# Altium footprint library IFBpcblib_offline.PcbLib: 137 footprints (part 1 of 9)
Each footprint in its own frame and in the unit in brackets; x right, y up, seen from the top. Pads: shape width x height; smd on the part's side, far side on the other; paste and mask are expansions set on the pad; w line width, h text height; cw(c..) or ccw(c..) is an arc to the next point about the centre after c.
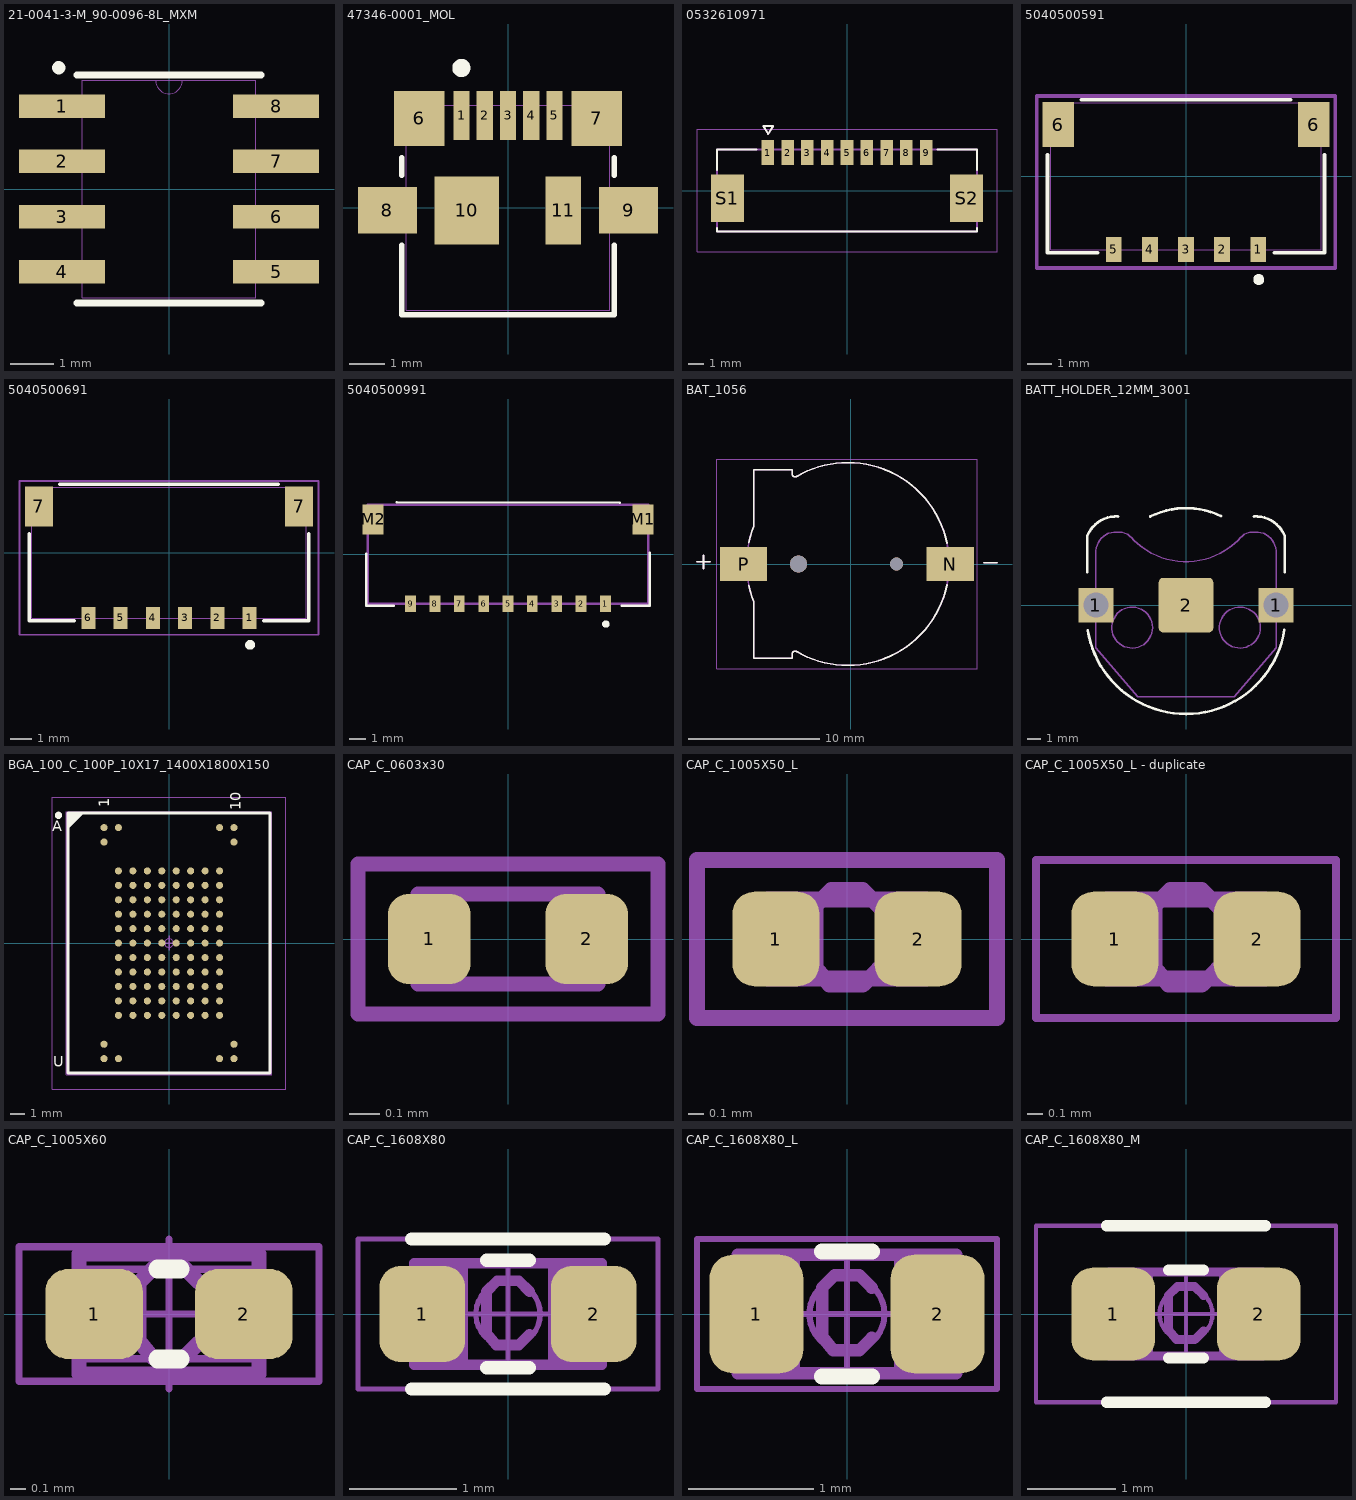
[diagram p0: the footprints below, top view; thin cyan lines are the x and y axes]

## 21-0041-3-M_90-0096-8L_MXM [mm]
pads (8):
  rect 1.981x0.541 smd paste+0 mask+0: 1(-2.465,1.905) 2(-2.465,0.635) 3(-2.465,-0.635) 4(-2.465,-1.905) 5(2.465,-1.905) 6(2.465,-0.635) 7(2.465,0.635) 8(2.465,1.905)
Top Overlay:
  circle w0.203: c-2.54,2.794 r0.051
  lines w0.152: -2.127,-2.627 2.127,-2.627 ; -2.127,2.627 2.127,2.627
Mechanical 13:
  lines w0: -0.305,2.5 ccw(c0,2.5) 0.305,2.5
  lines w0.025: -3.1,-2.15 -3.1,-1.66 -2,-1.66 -2,-2.15 -3.1,-2.15 ; -3.1,-0.88 -3.1,-0.39 -2,-0.39 -2,-0.88 -3.1,-0.88 ; -3.1,0.39 -3.1,0.88 -2,0.88 -2,0.39 -3.1,0.39 ; -3.1,1.66 -3.1,2.15 -2,2.15 -2,1.66 -3.1,1.66 ; -2,-2.5 2,-2.5 2,2.5 -2,2.5 -2,-2.5 ; 2,-2.15 2,-1.66 3.1,-1.66 3.1,-2.15 2,-2.15 ; 2,-0.88 2,-0.39 3.1,-0.39 3.1,-0.88 2,-0.88 ; 2,0.39 2,0.88 3.1,0.88 3.1,0.39 2,0.39 ; 2,1.66 2,2.15 3.1,2.15 3.1,1.66 2,1.66
3D body "21-0041-3-M_90-0096-8L_MXM.step": height 1.75, standoff 0, extent -3.1,-2.5 3.1,2.5

## 47346-0001_MOL [mil]
pads (11):
  rect 18x54 smd paste+0 mask+1.97: 1(-51.18,101.58) 2(-25.59,101.58) 3(0,101.58) 4(25.59,101.58) 5(51.18,101.58)
  rect 56x61 smd paste+0 mask+1.97: 6(-97.93,98.24) 7(97.93,98.24)
  rect 65x51 smd paste+0 mask+1.97: 8(-132.87,-3.14) 9(132.87,-3.14)
  rect 71x75 smd paste+0 mask+1.97: 10(-45.28,-3.14)
  rect 39x75 smd paste+0 mask+1.97: 11(61,-3.14)
Top Overlay:
  circle w10: c-51.37,153.84 r5
  lines w6: -117,-41.74 -117,-118 117,-118 117,-41.74 ; -117,35.46 -117,54.64 ; 117,35.46 117,54.64
Mechanical 13:
  lines w1: -112,-113 112,-113 112,113 -112,113 -112,-113
3D body "473460001.stp": height 105.87, standoff -9.87, extent -157.09,-109.45 157.09,104.33

## 0532610971 [mm] "CONN HEADER SMD R/A 9POS 1.25MM"
pads (11):
  rect 0.8x1.6 smd mask+0.076: 1(-5,2.4) 2(-3.75,2.4) 3(-2.5,2.4) 4(-1.25,2.4) 5(0,2.4) 6(1.25,2.4) 7(2.5,2.4) 8(3.75,2.4) 9(5,2.4)
  rect 2.1x3 smd mask+0.076: S1(-7.55,-0.5) S2(7.55,-0.5)
Top Overlay:
  lines w0.127: -8.2,-2.35 -8.2,-2.6 8.2,-2.6 8.2,-2.35 ; -8.2,1.3 -8.2,2.6 -5.72,2.6 ; 5.72,2.6 8.2,2.6 8.2,1.3 ; -5.278,4.067 -4.678,4.067 -4.978,3.567 -5.278,4.067
Top Assembly:
  text "'.Designator'" at -11.717,-2.718 h1.9
Mechanical 13:
  lines w0.127: -8.2,-2.6 8.2,-2.6 8.2,2.6 -8.2,2.6 -8.2,-2.6 ; -5.278,4.067 -4.678,4.067 -4.978,3.567 -5.278,4.067
Mechanical 15:
  lines w0.05: -9.47,-3.87 9.47,-3.87 9.47,3.87 -9.47,3.87 -9.47,-3.87
3D body "0532610971.stp": height 3.2, standoff -0.2, extent -8.2,-2.667 8.2,2.533

## 5040500591 [mil]
pads (7):
  rect 26x41 smd: 1(118.11,-119.76) 2(59.06,-119.76) 3(0,-119.76) 4(-59.06,-119.76) 5(-118.11,-119.76)
  rect 51x73 smd: 6(-208.86,84.57) 6(208.86,84.57)
Top Overlay:
  circle w10: c119,-169 r3.94
  lines w6: -226.5,34.97 -226.5,-125 -144.21,-125 ; -170.86,125 170.86,125 ; 144.21,-125 226.5,-125 226.5,34.97
Mechanical 13:
  lines w1: -221.5,-120 221.5,-120 221.5,120 -221.5,120 -221.5,-120
Mechanical 15:
  lines w6: -244.36,-150.26 -244.36,131.07 244.36,131.07 244.36,-150.26 -244.36,-150.26
3D body "5040500591.stp": height 78.74, standoff 0, extent -237.2,-133.54 237.2,120

## 5040500691 [mil]
pads (8):
  rect 26x41 smd paste+0: 1(147.64,-119.76) 2(88.58,-119.76) 3(29.53,-119.76) 4(-29.53,-119.76) 5(-88.58,-119.76) 6(-147.64,-119.76)
  rect 51x73 smd: 7(-238.19,84.57) 7(238.19,84.57)
Top Overlay:
  circle w10: c148.53,-169 r3.94
  lines w6: -256,34.97 -256,-125 -173.74,-125 ; -200.19,125 200.19,125 ; 173.74,-125 256,-125 256,34.97
Mechanical 13:
  lines w1: -251,-120 -251,120 251,120 251,-120 -251,-120
Mechanical 15:
  lines w3: -273.69,-150.26 273.69,-150.26 273.69,131.07 -273.69,131.07 -273.69,-150.26
3D body "5040500691.stp": height 78.74, standoff 0, extent -266.73,-127.54 266.73,126

## 5040500991 [mil]
pads (11):
  rect 26x41 smd: 1(236.22,-119.76) 2(177.17,-119.76) 3(118.11,-119.76) 4(59.06,-119.76) 5(0,-119.76) 6(-59.06,-119.76) 7(-118.11,-119.76) 8(-177.17,-119.76) 9(-236.22,-119.76)
  rect 51x73 smd: M1(326.97,84.57) M2(-326.97,84.57)
Top Overlay:
  circle w10: c237.11,-169 r3.94
  lines w6: -344,2 -344,-125 -277,-125 ; -270,126 271,125 ; 276,-125 344,-125 344,4
Mechanical 13:
  lines w6: -340,-120 -340,120 340,120 340,-120 -340,-120
3D body "5040500991.stp": height 78.74, standoff 0, extent -354.09,-129.25 356.54,124.29

## BAT_1056 [mm]
height 3.99
pads (4):
  rect 3.6x2.6 smd: N(7.61,0) P(-8.18,0)
  round 1.3 hole 1.3 unplated: ""(-3.98,0)
  round 1 hole 1 unplated: ""(3.51,0)
Top Overlay:
  lines w0.127: -11.735,0.16 -10.735,0.16 ; -11.235,-0.34 -11.235,0.66 ; -7.78,-1.632 ccw(c-0.484,-0.082) -7.4,-2.876 ; -7.78,1.632 cw(c-0.484,0.082) -7.4,2.876 ; -7.41,-2.85 -7.41,-7.2 -4.46,-7.2 -4.46,-6.88 ; -7.41,2.85 -7.41,7.2 -4.46,7.2 -4.46,6.88 ; -4.46,-6.881 cw(c-4.255,-6.87) -4.266,-6.665 cw(c-4.248,-7.014) -4.084,-6.705 ; -4.46,6.881 ccw(c-4.255,6.87) -4.266,6.665 ccw(c-4.248,7.014) -4.084,6.705 ; -4.078,-6.709 ccw(c-0.212,-0.013) -0.212,-7.745 ; -4.078,6.709 cw(c-0.212,0.013) -0.212,7.745 ; -0.21,-7.745 ccw(c-0.21,0) 7.366,-1.61 ; -0.21,7.745 cw(c-0.21,0) 7.366,1.61 ; 10.185,0.09 11.185,0.09
Mechanical 13:
  lines w0.127: -11.735,0.16 -10.735,0.16 ; -11.235,-0.34 -11.235,0.66 ; -7.41,-2.85 -7.41,-7.2 -4.46,-7.2 -4.46,-6.88 ; -7.41,2.85 -7.41,7.2 -4.46,7.2 -4.46,6.88 ; -7.393,-2.893 cw(c-0.231,0) -7.393,2.893 ; -4.46,-6.881 cw(c-4.255,-6.87) -4.266,-6.665 cw(c-4.248,-7.014) -4.084,-6.705 ; -4.46,6.881 ccw(c-4.255,6.87) -4.266,6.665 ccw(c-4.248,7.014) -4.084,6.705 ; -4.078,-6.709 ccw(c-0.212,-0.013) -0.212,-7.745 ; -4.078,6.709 cw(c-0.212,0.013) -0.212,7.745 ; -0.21,-7.745 ccw(c-0.21,0) -0.21,7.745 ; 10.185,0.09 11.185,0.09
Mechanical 15:
  lines w0.05: -10.23,-8 -10.23,8 9.66,8 9.66,-8 -10.23,-8
3D body "step_temp.STEP": height 1.83, standoff -3.33, extent -6.361,-9.342 8.777,9.458

## BATT_HOLDER_12MM_3001 [mil] "BATTERY HOLDER 12MM COIN TH"
height 118.11
pads (3):
  rect 100x100 hole 73: 1(-260,0) 1(260,0)
  rrect15% 157.48x157.48 smd: 2(0,0)
Top Overlay:
  lines w7.87: -285.04,94.49 -285.04,200 ; -285,200 cw(c-201.21,165.66) -196.53,256.09 ; -283.69,-73.03 ccw(c0,-27) 284.02,-70.98 ; -102.93,255.92 cw(c0,47.95) 100.92,256.9 ; 196.53,256.09 cw(c201.21,165.66) 285,200 ; 285.04,94.49 285.04,196.85
Top Assembly:
  circle w3.94: c-155.51,-65 r59.06
  circle w3.94: c155.51,-65 r59.06
  lines w3.94: -260,-31 -290,-31 -290,31 -260,31 ; 260,-31 290,-31 290,31 260,31 ; -260,-123 -260,157 cw(c-203,154) -200,211 cw(c-196.5,154.5) -150.74,187.82 ccw(c-0.03,338.53) 150.68,187.82 cw(c196.45,154.5) 199.95,211 cw(c203,154) 260,157 260,-123 140,-265 -140,-265 -260,-123
Top Courtyard:
  lines w3.94: -35,0 0,0 ; 0,-35 0,0 ; 0,35 0,0 ; 35,0 0,0
3D body "Keystone3001-1.STEP": height 127.95, standoff -76.77, extent -293.31,-259.91 293.31,240

## BGA_100_C_100P_10X17_1400X1800X150 [mm] "BGA, 100-Leads, Body 14.00x18.00mmx1.50mm, Pitch 1.00mm"
height 1.5
pads (200):
  round 0.49 smd: A1(-4.5,8) A2(-3.5,8) A9(3.5,8) A10(4.5,8) B1(-4.5,7) B10(4.5,7) D2(-3.5,5) D3(-2.5,5) D4(-1.5,5) D5(-0.5,5) D6(0.5,5) D7(1.5,5) D8(2.5,5) D9(3.5,5) E2(-3.5,4) E3(-2.5,4) E4(-1.5,4) E5(-0.5,4) E6(0.5,4) E7(1.5,4) E8(2.5,4) E9(3.5,4) F2(-3.5,3) F3(-2.5,3) F4(-1.5,3) F5(-0.5,3) F6(0.5,3) F7(1.5,3) F8(2.5,3) F9(3.5,3) G2(-3.5,2) G3(-2.5,2) G4(-1.5,2) G5(-0.5,2) G6(0.5,2) G7(1.5,2) G8(2.5,2) G9(3.5,2) H2(-3.5,1) H3(-2.5,1) H4(-1.5,1) H5(-0.5,1) H6(0.5,1) H7(1.5,1) H8(2.5,1) H9(3.5,1) J2(-3.5,0) J3(-2.5,0) J4(-1.5,0) J5(-0.5,0) J6(0.5,0) J7(1.5,0) J8(2.5,0) J9(3.5,0) K2(-3.5,-1) K3(-2.5,-1) K4(-1.5,-1) K5(-0.5,-1) K6(0.5,-1) K7(1.5,-1) K8(2.5,-1) K9(3.5,-1) L2(-3.5,-2) L3(-2.5,-2) L4(-1.5,-2) L5(-0.5,-2) L6(0.5,-2) L7(1.5,-2) L8(2.5,-2) L9(3.5,-2) M2(-3.5,-3) M3(-2.5,-3) M4(-1.5,-3) M5(-0.5,-3) M6(0.5,-3) M7(1.5,-3) M8(2.5,-3) M9(3.5,-3) N2(-3.5,-4) N3(-2.5,-4) N4(-1.5,-4) N5(-0.5,-4) N6(0.5,-4) N7(1.5,-4) N8(2.5,-4) N9(3.5,-4) P2(-3.5,-5) P3(-2.5,-5) P4(-1.5,-5) P5(-0.5,-5) P6(0.5,-5) P7(1.5,-5) P8(2.5,-5) P9(3.5,-5) T1(-4.5,-7) T10(4.5,-7) U1(-4.5,-8) U2(-3.5,-8) U9(3.5,-8) U10(4.5,-8)
  round 0.35 on Mech8 paste+0 mask+0: A1(-4.5,8) A2(-3.5,8) A9(3.5,8) A10(4.5,8) B1(-4.5,7) B10(4.5,7) D2(-3.5,5) D3(-2.5,5) D4(-1.5,5) D5(-0.5,5) D6(0.5,5) D7(1.5,5) D8(2.5,5) D9(3.5,5) E2(-3.5,4) E3(-2.5,4) E4(-1.5,4) E5(-0.5,4) E6(0.5,4) E7(1.5,4) E8(2.5,4) E9(3.5,4) F2(-3.5,3) F3(-2.5,3) F4(-1.5,3) F5(-0.5,3) F6(0.5,3) F7(1.5,3) F8(2.5,3) F9(3.5,3) G2(-3.5,2) G3(-2.5,2) G4(-1.5,2) G5(-0.5,2) G6(0.5,2) G7(1.5,2) G8(2.5,2) G9(3.5,2) H2(-3.5,1) H3(-2.5,1) H4(-1.5,1) H5(-0.5,1) H6(0.5,1) H7(1.5,1) H8(2.5,1) H9(3.5,1) J2(-3.5,0) J3(-2.5,0) J4(-1.5,0) J5(-0.5,0) J6(0.5,0) J7(1.5,0) J8(2.5,0) J9(3.5,0) K2(-3.5,-1) K3(-2.5,-1) K4(-1.5,-1) K5(-0.5,-1) K6(0.5,-1) K7(1.5,-1) K8(2.5,-1) K9(3.5,-1) L2(-3.5,-2) L3(-2.5,-2) L4(-1.5,-2) L5(-0.5,-2) L6(0.5,-2) L7(1.5,-2) L8(2.5,-2) L9(3.5,-2) M2(-3.5,-3) M3(-2.5,-3) M4(-1.5,-3) M5(-0.5,-3) M6(0.5,-3) M7(1.5,-3) M8(2.5,-3) M9(3.5,-3) N2(-3.5,-4) N3(-2.5,-4) N4(-1.5,-4) N5(-0.5,-4) N6(0.5,-4) N7(1.5,-4) N8(2.5,-4) N9(3.5,-4) P2(-3.5,-5) P3(-2.5,-5) P4(-1.5,-5) P5(-0.5,-5) P6(0.5,-5) P7(1.5,-5) P8(2.5,-5) P9(3.5,-5) T1(-4.5,-7) T10(4.5,-7) U1(-4.5,-8) U2(-3.5,-8) U9(3.5,-8) U10(4.5,-8)
Top Overlay:
  circle w0.25: c-7.65,8.85 r0.125
  region: -6,9 -7,8 -7,9
  lines w0.2: -7,8 -6,9 ; -7,-9 7,-9 7,9 -7,9 -7,-9
  text "A" at -8.1,7.5 h1.27
  text "U" at -8,-8.8 h1.27
  text "1" at -3.9,9.4 h1.27
  text "10" at 5.2,9.2 h1.27
Top Assembly:
  lines w0.025: -7.048,8.555 -6.549,9.055 ; -7.048,-9.055 7.048,-9.055 7.048,9.055 -7.048,9.055 -7.048,-9.055
  lines w0.1: -7,-9 7,-9 7,9 -7,9 -7,-9
  text "A" at -8.319,7.365 h1.27
  text "U" at -8.319,-8.635 h1.27
  text "1" at -3.865,9.69 h1.27
  text "10" at 5.135,9.69 h1.27
  text "'.Designator'" at -3.952,-0.622 h1.5
Top Courtyard:
  lines w0.05: -8.1,-10.1 8.1,-10.1 8.1,10.1 -8.1,10.1 -8.1,-10.1
  lines w0.1: -0.5,0 0.5,0 ; 0,-0.5 0,0.5
Top Component Outline:
  lines w0.05: -7.1,-9.1 7.1,-9.1 7.1,9.1 -7.1,9.1 -7.1,-9.1
Top Component Center:
  circle w0.05: c0,0 r0.3
  lines w0.05: -0.5,0 0.5,0 ; 0,-0.5 0,0.5
3D body "BGA100C100P10X17_1400X1800X150.step": height 1.5, standoff 0, extent -7,-9 7,9

## CAP_C_0603x30 [mm] "Chip Capacitor, 2-Leads, Body 0.6x0.3mm, IPC Medium Density"
height 0.3
pads (2):
  rrect50% 0.275x0.3 smd mask+0.064: 1(-0.262,0) 2(0.262,0)
Top Assembly:
  lines w0.05: -0.3,-0.15 -0.3,0.15 0.3,0.15 0.3,-0.15 -0.3,-0.15
  text ".Designator" at -0.5,0 h0.13
Top Courtyard:
  lines w0.05: -0.5,-0.25 0.5,-0.25 0.5,0.25 -0.5,0.25 -0.5,-0.25
  text "C" at -0.075,-0.1 h0.2
3D body "User Library-SMD CAPACITOR.STEP": height 0.28, standoff -0.02, extent -0.3,-0.15 0.3,0.15

## CAP_C_1005X50_L [mm] "Chip Capacitor, 2-Leads, Body 1.0x0.5mm, IPC High Density"
height 0.5
pads (2):
  rrect50% 0.55x0.6 smd: 1(-0.45,0) 2(0.45,0)
Top Assembly:
  lines w0.1: -0.5,-0.25 -0.5,0.25 0.5,0.25 0.5,-0.25 -0.5,-0.25
  text ".Designator" at -0.4,-0.15 h0.3
Top Courtyard:
  lines w0.1: 0.2,-0.19 0.1,-0.29 -0.11,-0.29 -0.2,-0.18 -0.2,0.21 -0.1,0.31 0.1,0.31 0.2,0.21 ; -0.95,-0.5 0.95,-0.5 0.95,0.5 -0.95,0.5 -0.95,-0.5
Top 3D Body:
  lines w0.1: -0.5,-0.25 0.5,-0.25 0.5,0.25 -0.5,0.25 -0.5,-0.25
3D body "CAP_C_0402.step": height 0.2, standoff 0, extent -0.5,-0.3 0.5,0.3

## CAP_C_1005X50_L - duplicate [mm] "Chip Capacitor, 2-Leads, Body 1.0x0.5mm, IPC High Density"
height 0.5
pads (2):
  rrect50% 0.55x0.6 smd: 1(-0.45,0) 2(0.45,0)
Top Assembly:
  lines w0.1: -0.5,-0.25 -0.5,0.25 0.5,0.25 0.5,-0.25 -0.5,-0.25
  text ".Designator" at -0.4,-0.15 h0.3
Top Courtyard:
  lines w0.05: -0.95,-0.5 0.95,-0.5 0.95,0.5 -0.95,0.5 -0.95,-0.5
  lines w0.1: 0.2,-0.19 0.1,-0.29 -0.11,-0.29 -0.2,-0.18 -0.2,0.21 -0.1,0.31 0.1,0.31 0.2,0.21
Top 3D Body:
  lines w0.1: -0.5,-0.25 0.5,-0.25 0.5,0.25 -0.5,0.25 -0.5,-0.25
3D body "CAP_C_0402.step": height 0.2, standoff 0, extent -0.5,-0.3 0.5,0.3

## CAP_C_1005X60 [mm]
pads (2):
  rrect50% 0.65x0.6 smd mask+0.05: 1(-0.5,0) 2(0.5,0)
Top Overlay:
  lines w0.125: -0.075,-0.3 0.075,-0.3 ; -0.075,0.3 0.075,0.3
Top Assembly:
  lines w0.1: -0.6,-0.4 0.6,-0.4 0.6,0.4 -0.6,0.4 -0.6,-0.4
  text "'.Designator'" at -4.433,-0.827 h1.6
Top Courtyard:
  lines w0.05: -1,-0.45 -1,0.45 1,0.45 1,-0.45 -0.575,-0.45 -1,-0.45
  lines w0.1: 0.2,-0.19 0.1,-0.29 -0.11,-0.29 -0.2,-0.18 -0.2,0.21 -0.1,0.31 0.1,0.31 0.2,0.21
Top Component Outline:
  rectangle: -0.55,-0.3 -0.25,0.3
  rectangle: 0.25,-0.3 0.55,0.3
  lines w0.05: -0.55,-0.3 0.55,-0.3 0.55,0.3 -0.55,0.3 -0.55,-0.3
Top Component Center:
  circle w0.05: c0,0 r0.3
  lines w0.05: -0.5,0 0.5,0 ; 0,-0.5 0,0.5
3D body "capacitor-0402C.step": height 0.35, standoff 0, extent -0.5,-0.265 0.5,0.265

## CAP_C_1608X80 [mm] "Chip Capacitor, 2-Leads, Body 1.60x0.80mm, IPC Medium Density"
height 0.85
pads (2):
  rrect50% 0.8x0.9 smd: 1(-0.8,0) 2(0.8,0)
Top Overlay:
  lines w0.125: -0.9,-0.7 0.9,-0.7 ; -0.9,0.7 0.9,0.7 ; -0.2,-0.5 0.2,-0.5 ; -0.2,0.5 0.2,0.5
Top Assembly:
  lines w0.1: -0.875,-0.475 -0.875,0.475 0.875,0.475 0.875,-0.475 -0.875,-0.475
  text "'.Designator'" at -4.217,-0.663 h1.6
Top Courtyard:
  lines w0.05: -1.4,-0.7 -1.4,0.7 1.4,0.7 1.4,-0.7 -1.4,-0.7
  lines w0.1: 0.2,-0.19 0.1,-0.29 -0.11,-0.29 -0.2,-0.18 -0.2,0.21 -0.1,0.31 0.1,0.31 0.2,0.21
Top Component Outline:
  rectangle: 0.375,-0.475 0.875,0.475
  rectangle: -0.875,-0.475 -0.375,0.475
  lines w0.05: -0.875,-0.475 0.875,-0.475 0.875,0.475 -0.875,0.475 -0.875,-0.475
Top Component Center:
  circle w0.05: c0,0 r0.3
  lines w0.05: -0.5,0 0.5,0 ; 0,-0.5 0,0.5
3D body "CAPC1608X80.step": height 0.85, standoff 0, extent -0.875,-0.475 0.875,0.475

## CAP_C_1608X80_L [mm] "Chip Capacitor, 2-Leads, Body 1.60x0.80mm, IPC High Density"
height 0.85
pads (2):
  rrect50% 0.75x0.95 smd: 1(-0.725,0) 2(0.725,0)
Top Overlay:
  lines w0.125: -0.2,-0.5 0.2,-0.5 ; -0.2,0.5 0.2,0.5
Top Assembly:
  lines w0.1: -0.875,-0.475 0.875,-0.475 0.875,0.475 -0.875,0.475 -0.875,-0.475
  text "'.Designator'" at -4.217,-0.663 h1.6
Top Courtyard:
  lines w0.05: -1.2,-0.6 -1.2,0.6 1.2,0.6 1.2,-0.6 -1.2,-0.6
  lines w0.1: 0.2,-0.19 0.1,-0.29 -0.11,-0.29 -0.2,-0.18 -0.2,0.21 -0.1,0.31 0.1,0.31 0.2,0.21
Top Component Outline:
  rectangle: -0.875,-0.475 -0.375,0.475
  rectangle: 0.375,-0.475 0.875,0.475
  lines w0.05: -0.875,-0.475 -0.875,0.475 0.875,0.475 0.875,-0.475 -0.875,-0.475
Top Component Center:
  circle w0.05: c0,0 r0.3
  lines w0.05: -0.5,0 0.5,0 ; 0,-0.5 0,0.5
3D body "CAPC1608X80_L.step": height 0.85, standoff 0, extent -0.875,-0.475 0.875,0.475

## CAP_C_1608X80_M [mm] "Chip Capacitor, 2-Leads, Body 1.60x0.80mm, IPC Low Density"
height 0.85
pads (2):
  rrect50% 0.95x1.05 smd: 1(-0.825,0) 2(0.825,0)
Top Overlay:
  lines w0.125: -0.9,-1 0.9,-1 ; -0.9,1 0.9,1 ; -0.2,-0.5 0.2,-0.5 ; -0.2,0.5 0.2,0.5
Top Assembly:
  lines w0.1: -0.875,-0.475 -0.875,0.475 0.875,0.475 0.875,-0.475 -0.875,-0.475
  text "'.Designator'" at -4.217,-0.663 h1.6
Top Courtyard:
  lines w0.05: -1.7,-1 1.7,-1 1.7,1 -1.7,1 -1.7,-1
  lines w0.1: 0.2,-0.19 0.1,-0.29 -0.11,-0.29 -0.2,-0.18 -0.2,0.21 -0.1,0.31 0.1,0.31 0.2,0.21
Top Component Outline:
  rectangle: 0.375,-0.475 0.875,0.475
  rectangle: -0.875,-0.475 -0.375,0.475
  lines w0.05: -0.875,-0.475 0.875,-0.475 0.875,0.475 -0.875,0.475 -0.875,-0.475
Top Component Center:
  circle w0.05: c0,0 r0.3
  lines w0.05: -0.5,0 0.5,0 ; 0,-0.5 0,0.5
3D body "CAPC1608X80_M.step": height 0.85, standoff 0, extent -0.875,-0.475 0.875,0.475